# EAGLE library part 621X44242921 (library Eagle_BOARD-TO-BOARD_CONNECTORS (rev18b))
WR-PHD 2.00mm Dual SMT Socket Header, 44 Pins=>Code : Con_BTB_SHD_2.00_2_621x44242921(Packaging:x = 0: Tube x = 3: Tape & Reel with Cap; 600 pcs/Reel) <http://katalog.we-online.de/media/images/v2/Family_Dual_Socket_Header_WR-PHD_6130xx242921.jpg> 6210xx242921 Details see: http://katalog.we-online.de/en/em/PHD_2_00_SMT_DUAL_SOCKET_HEADER_6210XX242921 6213xx242921 Details see: http://katalog.we-online.de/en/em/PHD_2_00_SMT_DUAL_SOCKET_HEADER_REEL_6213XX242921 2014 (C) Würth Elektronik
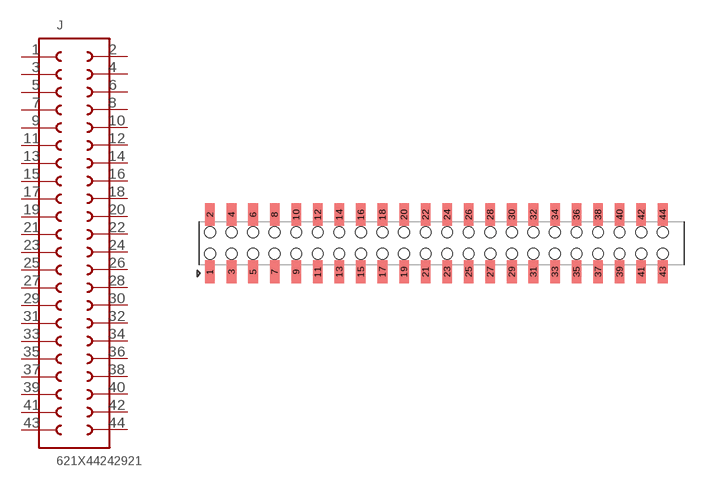
[diagram p263: symbol with the pads of 621X44242921; footprint 621X44242921]

Designator prefix J

## 621X44242921  [621X44242921]
1  1  pas
2  44  pas
3  2  pas
4  43  pas
5  3  pas
6  42  pas
7  4  pas
8  41  pas
9  5  pas
10  40  pas
11  6  pas
12  39  pas
13  7  pas
14  38  pas
15  8  pas
16  37  pas
17  9  pas
18  36  pas
19  10  pas
20  35  pas
21  11  pas
22  34  pas
23  12  pas
24  33  pas
25  13  pas
26  32  pas
27  14  pas
28  31  pas
29  15  pas
30  30  pas
31  16  pas
32  29  pas
33  17  pas
34  28  pas
35  18  pas
36  27  pas
37  19  pas
38  26  pas
39  20  pas
40  25  pas
41  21  pas
42  24  pas
43  22  pas
44  23  pas

## Footprint 621X44242921 (pad centres in mm)
WR-PHD 2.00mm Dual SMT Socket Header, 44 Pins
smd 0.89 x 2.1: 1 -21,-2.65; 2 -21,2.65; 3 -19,-2.65; 4 -19,2.65; 5 -17,-2.65; 6 -17,2.65; 7 -15,-2.65; 8 -15,2.65; 9 -13,-2.65; 10 -13,2.65; 11 -11,-2.65; 12 -11,2.65; 13 -9,-2.65; 14 -9,2.65; 15 -7,-2.65; 16 -7,2.65; 17 -5,-2.65; 18 -5,2.65; 19 -3,-2.65; 20 -3,2.65; 21 -1,-2.65; 22 -1,2.65; 23 1,-2.65; 24 1,2.65; 25 3,-2.65; 26 3,2.65; 27 5,-2.65; 28 5,2.65; 29 7,-2.65; 30 7,2.65; 31 9,-2.65; 32 9,2.65; 33 11,-2.65; 34 11,2.65; 35 13,-2.65; 36 13,2.65; 37 15,-2.65; 38 15,2.65; 39 17,-2.65; 40 17,2.65; 41 19,-2.65; 42 19,2.65; 43 21,-2.65; 44 21,2.65
hole 1 at -21,1
hole 1 at -19,1
hole 1 at -19,-1
hole 1 at -21,-1
hole 1 at -17,1
hole 1 at -17,-1
hole 1 at -15,-1
hole 1 at -15,1
hole 1 at -13,1
hole 1 at -13,-1
hole 1 at -11,-1
hole 1 at -9,-1
hole 1 at -9,1
hole 1 at -11,1
hole 1 at -7,1
hole 1 at -5,1
hole 1 at -5,-1
hole 1 at -7,-1
hole 1 at -3,1
hole 1 at -3,-1
hole 1 at -1,1
hole 1 at 1,1
hole 1 at 1,-1
hole 1 at -1,-1
hole 1 at 3,1
hole 1 at 5,1
hole 1 at 5,-1
hole 1 at 3,-1
hole 1 at 7,1
hole 1 at 7,-1
hole 1 at 9,-1
hole 1 at 9,1
hole 1 at 11,1
hole 1 at 11,-1
hole 1 at 13,-1
hole 1 at 15,-1
hole 1 at 15,1
hole 1 at 13,1
hole 1 at 17,1
hole 1 at 19,1
hole 1 at 19,-1
hole 1 at 17,-1
hole 1 at 21,1
hole 1 at 21,-1